# EAGLE library part 7816-0000PR (library 3M_By_element14_Batch_1)
CONNECTOR, IDC
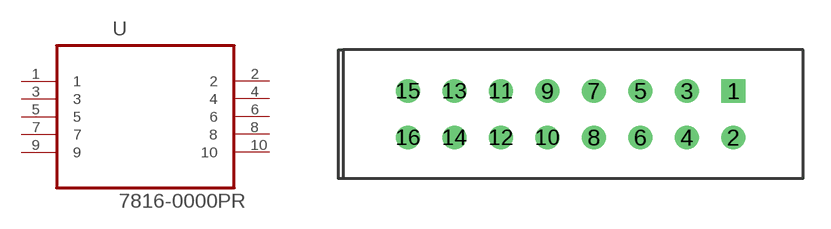
[diagram p58: symbol with the pads of CON16_2X8_PCB; footprint CON16_2X8_PCB]

Designator prefix U

## 7816-0000PR (MPN: 7816-0000PR; OC_FARNELL: 9138730; OC_NEWARK: 99K0698; PACKAGE: IDC Connector-16Pin; SUPPLIER: 3m)  [CON16_2X8_PCB]
1  1  pas
2  2  pas
3  3  pas
4  4  pas
5  5  pas
6  6  pas
7  7  pas
8  8  pas
9  9  pas
10  10  pas

## Footprint CON16_2X8_PCB (pad centres in mm)
drill 0.787 square: 1 0,2.54
drill 0.787: 2 0,0; 3 -2.54,2.54; 4 -2.54,0; 5 -5.08,2.54; 6 -5.08,0; 7 -7.62,2.54; 8 -7.62,0; 9 -10.16,2.54; 10 -10.16,0; 11 -12.7,2.54; 12 -12.7,0; 13 -15.24,2.54; 14 -15.24,0; 15 -17.78,2.54; 16 -17.78,0